# Altium footprint library 接插件.PcbLib: 91 footprints (part 1 of 6)
Each footprint in its own frame and in the unit in brackets; x right, y up, seen from the top. Pads: shape width x height; smd on the part's side, far side on the other; paste and mask are expansions set on the pad; w line width, h text height; cw(c..) or ccw(c..) is an arc to the next point about the centre after c.
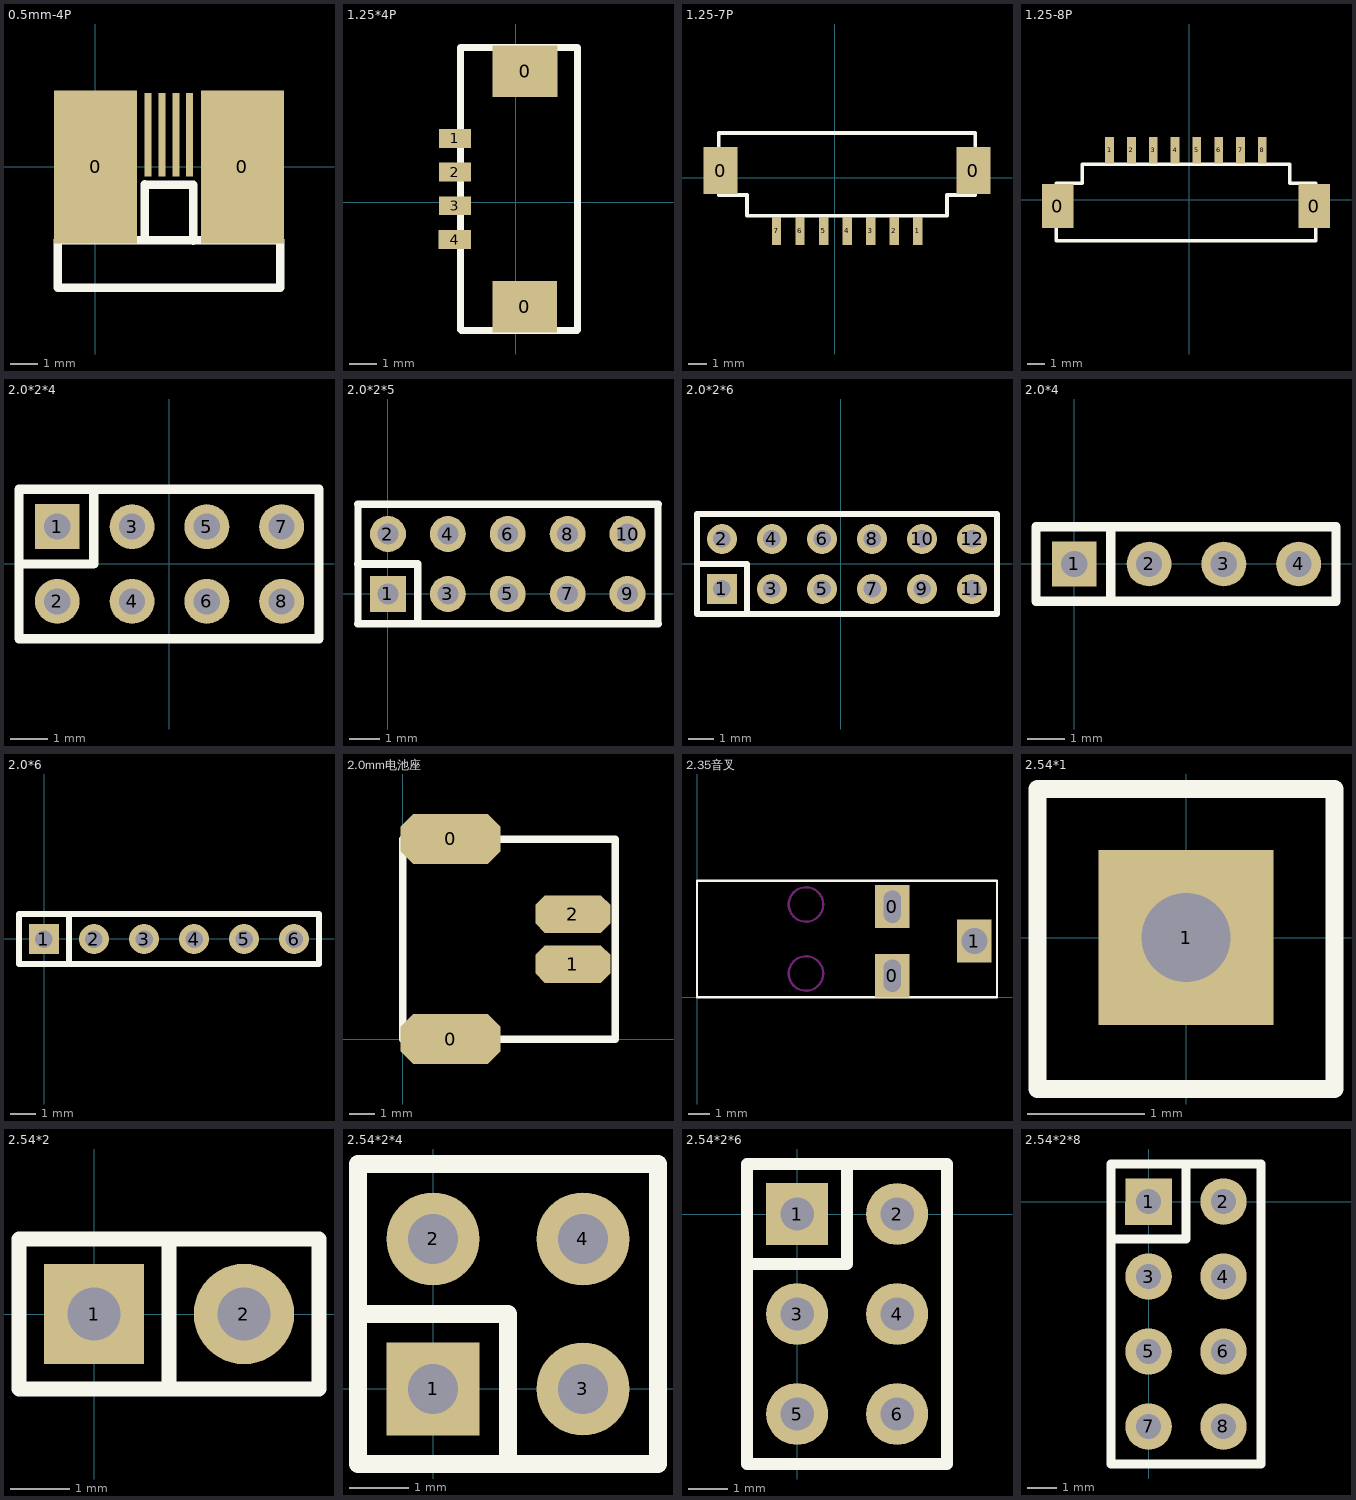
[diagram p0: the footprints below, top view; thin cyan lines are the x and y axes]

## 0.5mm-4P [mm]
pads (6):
  rect 3x5.5 smd: 0(0.001,-0.011) 0(5.285,-0.011)
  rect 0.25x3 smd: 1(1.888,1.148) 2(2.388,1.148) 3(2.888,1.148) 4(3.388,1.148)
Top Overlay:
  lines w0.3: -1.357,-4.356 6.648,-4.356 ; -0.757,-2.656 6.623,-2.656 ; 1.79,-0.656 3.523,-0.656
  lines w0.305: -1.362,-4.352 -1.362,-2.652 -0.762,-2.652 ; 1.779,-2.652 1.779,-0.646 ; 3.523,-2.662 3.523,-0.656 ; 6.023,-2.656 6.623,-2.656 ; 6.648,-4.356 6.648,-2.656

## 1.25*4P [mm]
pads (6):
  rect 2.4x1.9 smd: 0(0.327,-3.882) 0(0.339,4.848)
  rect 1.2x0.7 smd: 1(-2.261,2.362) 2(-2.261,1.112) 3(-2.261,-0.138) 4(-2.273,-1.395)
Top Overlay:
  lines w0.254: -2.058,-4.74 -2.058,5.737 2.285,5.737 2.285,-4.753 ; -2.027,-4.77 2.273,-4.77

## 1.25-7P [mm]
pads (9):
  rect 1.8x2.5 smd: 0(-6.057,0.389) 0(7.384,0.389)
  rect 0.5x1.5 smd: 1(4.418,-2.811) 2(3.168,-2.811) 3(1.918,-2.811) 4(0.668,-2.811) 5(-0.582,-2.811) 6(-1.832,-2.811) 7(-3.082,-2.811)
Top Overlay:
  lines w0.2: -6.157,-0.911 -4.657,-0.911 -4.657,-2.011 5.984,-2.011 5.984,-0.911 7.484,-0.911 7.484,2.389 -6.157,2.389 -6.157,-0.911

## 1.25-8P [mm]
pads (10):
  rect 1.8x2.5 smd: 0(-7.536,-0.363) 0(7.149,-0.363)
  rect 0.5x1.5 smd: 1(-4.57,2.837) 2(-3.32,2.837) 3(-2.07,2.837) 4(-0.82,2.837) 5(0.43,2.837) 6(1.68,2.837) 7(2.93,2.837) 8(4.174,2.837)
Top Overlay:
  lines w0.2: -7.636,-2.363 7.249,-2.363 7.249,0.937 5.749,0.937 5.749,2.037 -6.136,2.037 -6.136,0.937 -7.636,0.937 -7.636,-2.363

## 2.0*2*4 [mm]
pads (8):
  rect 1.2x1.2 hole 0.7: 1(-3,1)
  round 1.2 hole 0.7: 2(-3,-1) 3(-1,1) 4(-1,-1) 5(1,1) 6(1,-1) 7(3,1) 8(3,-1)
Top Overlay:
  lines w0.25: -4.023,-2 -4.023,2
  lines w0.254: -4.023,0 -2.023,0 -2.023,1.977 ; -4.023,2 4,2 ; -4.023,-2 4,-2 4,0 4,2 ; -4.023,-2 -4.023,-2 ; 4,2 4,2

## 2.0*2*5 [mm]
pads (10):
  rect 1.2x1.2 hole 0.7: 1(0,0)
  round 1.2 hole 0.7: 2(0,2) 3(2,0) 4(2,2) 5(4,0) 6(4,2) 7(6,0) 8(6,2) 9(8,0) 10(8,2)
Top Overlay:
  lines w0.25: -1,-1 -1,3 ; 9.017,-1 9.017,3
  lines w0.254: -1,-1 9.017,-1 ; -1,1 1,1 1,-1 ; -1,3 9.017,3

## 2.0*2*6 [mm]
pads (12):
  rect 1.2x1.2 hole 0.7: 1(-4.75,-1)
  round 1.2 hole 0.7: 2(-4.75,1) 3(-2.75,-1) 4(-2.75,1) 5(-0.75,-1) 6(-0.75,1) 7(1.25,-1) 8(1.25,1) 9(3.25,-1) 10(3.25,1) 11(5.25,-1) 12(5.25,1)
Top Overlay:
  lines w0.25: -5.75,-2 -5.75,2
  lines w0.254: -5.75,-2 6.25,-2 6.25,0 6.25,2 -5.75,2 ; -5.75,0 -3.75,0 -3.75,-2

## 2.0*4 [mm]
pads (4):
  rect 1.2x1.2 hole 0.7: 1(0,0)
  round 1.2 hole 0.7: 2(2,0) 3(4,0) 4(6,0)
Top Overlay:
  lines w0.25: -1.023,-0.965 -1.023,1
  lines w0.254: -1.023,1 7,1 ; 0.977,0.977 0.977,-1 -1.023,-1 7,-1 7,1 ; 7,1 7,1

## 2.0*6 [mm]
pads (6):
  rect 1.2x1.2 hole 0.7: 1(0,-0.009)
  round 1.2 hole 0.7: 2(2,-0.009) 3(4,-0.009) 4(6,-0.009) 5(8,-0.009) 6(10,-0.009)
Top Overlay:
  lines w0.25: -1,-1.009 -1,0.991
  lines w0.254: -1,-1.009 11,-1.009 11,0.991 -1,0.991 1,0.991 1,-1.009

## 2.0mm电池座 [mm]
pads (4):
  oct 4x2 smd: 0(1.905,0) 0(1.905,8.001)
  oct 3x1.5 smd: 1(6.8,3) 2(6.8,5)
Top Overlay:
  lines w0.3: 8.5,7.984 8.5,0 0,0 0,8 8.5,8

## 2.35音叉 [mm]
pads (3):
  rect 1.6x2 hole 0.8 slot 1.5 at 90 deg: 0(9.05,1) 0(9.05,4.2)
  rect 1.6x2 hole 1.2: 1(12.85,2.6)
Top Overlay:
  lines w0.1: 13.9,5.379 13.9,0 0,0 0,5.4 13.9,5.4
Keep-Out Layer:
  circle w0.1: c5.05,4.3 r0.8
  circle w0.1: c5.05,1.1 r0.8

## 2.54*1 [mm]
pads (1):
  rect 1.5x1.5 hole 0.762: 1(0,0)
Top Overlay:
  lines w0.15: -1.27,1.245 -1.27,-1.295 1.27,-1.295 ; -1.27,1.27 1.27,1.27 1.27,-1.27

## 2.54*2 [mm]
pads (2):
  rect 1.7x1.7 hole 0.9: 1(0,0)
  round 1.7 hole 0.9: 2(2.54,0)
Top Overlay:
  lines w0.254: 1.27,-1.27 1.27,1.27 ; -1.27,-1.27 3.81,-1.27 3.81,1.27 -1.27,1.27 -1.27,-1.27

## 2.54*2*4 [mil]
pads (4):
  rect 62x62 hole 33.47: 1(0,0)
  round 62 hole 33.47: 2(0,100) 3(100,0) 4(100,100)
Top Overlay:
  lines w12: -50,50 50,50 50,-50 ; -50,-50 150,-50 150,150 -50,150 -50,-50

## 2.54*2*6 [mil]
pads (6):
  rect 62x62 hole 33.47: 1(0,0)
  round 62 hole 33.47: 2(100,0) 3(0,-100) 4(100,-100) 5(0,-200) 6(100,-200)
Top Overlay:
  lines w12: -50.39,-250 149.61,-250 ; -50,-250 -50,50 150,50 150,-250 ; -50,-50 50,-50 50,50

## 2.54*2*8 [mil]
pads (8):
  rect 62x62 hole 33.47: 1(0,0)
  round 62 hole 33.47: 2(100,0) 3(0,-100) 4(100,-100) 5(0,-200) 6(100,-200) 7(0,-300) 8(100,-300)
Top Overlay:
  lines w12: -50,-50 50,-50 50,50 ; -50,-350 150,-350 150,50 -50,50 -50,-350